# EAGLE library part ADAFRUITGPSBREAKOUT (library AdafruitGPSbreakout)
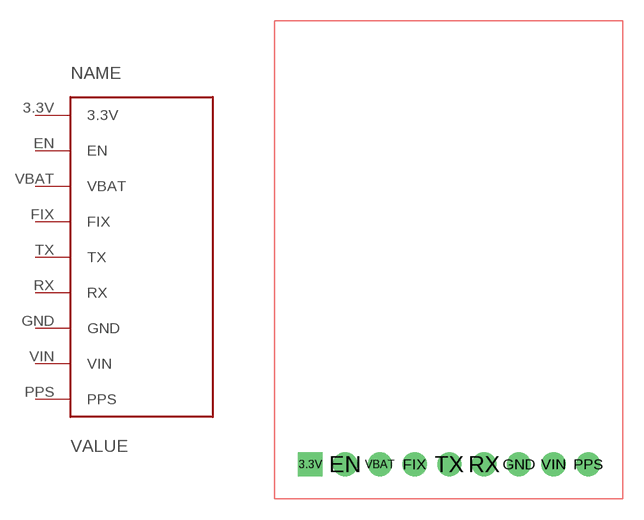
[diagram p0: symbol with the pads of ADAFRUITGPS; footprint ADAFRUITGPS]

Designator prefix GPS

## ADAFRUITGPSBREAKOUT  [ADAFRUITGPS]
3.3V  3.3V
EN  EN
FIX  FIX
GND  GND
PPS  PPS
RX  RX
TX  TX
VBAT  VBAT
VIN  VIN

## Footprint ADAFRUITGPS (pad centres in mm)
drill 1.016 pad 1.778 square: 3.3V -22.86,2.54
drill 1.016 pad 1.778: EN -20.32,2.54; FIX -15.24,2.54; GND -7.62,2.54; PPS -2.54,2.54; RX -10.16,2.54; TX -12.7,2.54; VBAT -17.78,2.54; VIN -5.08,2.54